# Altium footprint library R 热敏电阻.PcbLib: 4 footprints
Each footprint in its own frame and in the unit in brackets; x right, y up, seen from the top. Pads: shape width x height; smd on the part's side, far side on the other; paste and mask are expansions set on the pad; w line width, h text height; cw(c..) or ccw(c..) is an arc to the next point about the centre after c.
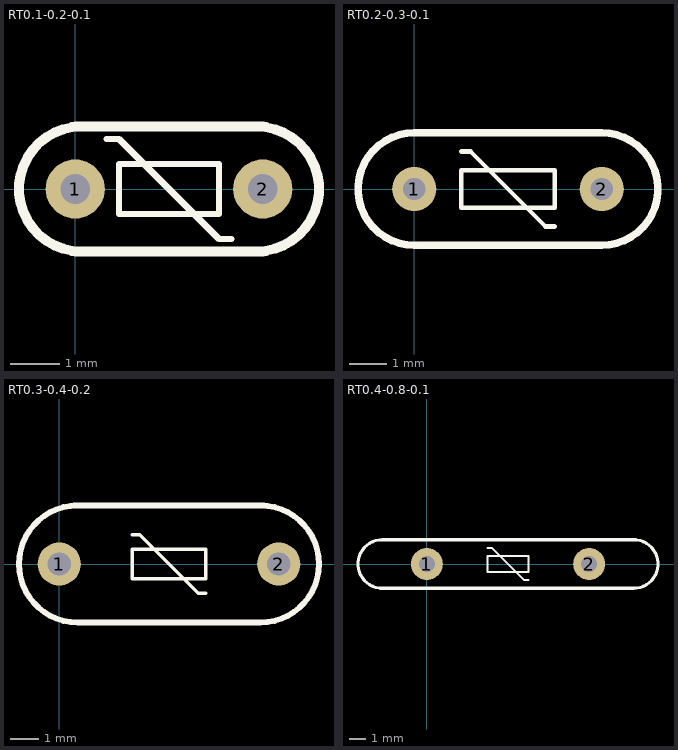
[diagram p0: the footprints below, top view; thin cyan lines are the x and y axes]

## RT0.1-0.2-0.1 [mm] "适用于热敏电阻间距150mil，宽度240mil，厚度100mil"
pads (2):
  round 1.2 hole 0.6: 1(0,0) 2(3.81,0)
Top Overlay:
  lines w0.127: 0.635,1.016 0.889,1.016 2.921,-1.016 3.175,-1.016 ; 0.889,-0.508 2.921,-0.508 2.921,0.508 0.889,0.508 0.889,-0.508
  lines w0.203: 0,-1.27 3.81,-1.27 ; 0,1.27 3.81,1.27 ; 0.127,-1.27 cw(c0.127,0) 0.127,1.27 ; 3.683,-1.27 ccw(c3.683,0) 3.683,1.27

## RT0.2-0.3-0.1 [mm] "适用于热敏电阻间距200mil，宽度320mil，厚度120mil"
pads (2):
  round 1.2 hole 0.6: 1(0,0) 2(5.08,0)
Top Overlay:
  lines w0.127: 1.27,1.016 1.524,1.016 3.556,-1.016 3.81,-1.016 ; 1.27,-0.508 3.81,-0.508 3.81,0.508 1.27,0.508 1.27,-0.508
  lines w0.203: 0,-1.524 cw(c0,0) 0,1.524 5.08,1.524 cw(c5.08,0) 5.08,-1.524 0,-1.524

## RT0.3-0.4-0.2 [mm] "适用于热敏电阻间距300mil，宽度400mil，厚度160mil"
pads (2):
  round 1.5 hole 0.8: 1(0,0) 2(7.62,0)
Top Overlay:
  lines w0.127: 2.54,1.016 2.794,1.016 4.826,-1.016 5.08,-1.016 ; 2.54,-0.508 5.08,-0.508 5.08,0.508 2.54,0.508 2.54,-0.508
  lines w0.203: 0.508,2.032 7.112,2.032 ; 0.635,2.032 ccw(c0.635,0) 0.635,-2.032 6.985,-2.032 ccw(c6.985,0) 6.985,2.032

## RT0.4-0.8-0.1 [mm] "适用于热敏电阻间距400mil，宽度800mil，厚度120mil"
pads (2):
  round 2 hole 1: 1(0,0) 2(10.16,0)
Top Overlay:
  lines w0.127: 3.81,1.016 4.064,1.016 6.096,-1.016 6.35,-1.016 ; 3.81,-0.508 3.81,0.508 6.35,0.508 6.35,-0.508 3.81,-0.508
  lines w0.203: -2.921,-1.524 12.954,-1.524 ccw(c12.954,0) 12.954,1.524 ; -2.794,-1.524 cw(c-2.794,0) -2.794,1.524 13.081,1.524